# Altium footprint library CH32V103R核心板整体封装.PcbLib: 1 footprints
Each footprint in its own frame and in the unit in brackets; x right, y up, seen from the top. Pads: shape width x height; smd on the part's side, far side on the other; paste and mask are expansions set on the pad; w line width, h text height; cw(c..) or ccw(c..) is an arc to the next point about the centre after c.
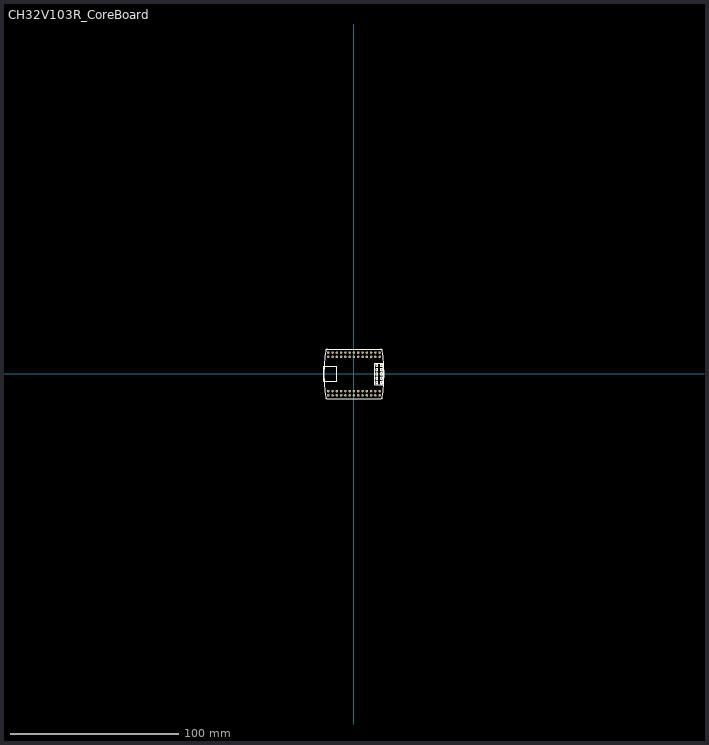
[diagram p0: the footprint, top view; thin cyan lines are the x and y axes]

## CH32V103R_CoreBoard [mm] "逐飞科技CH32V103R核心板"
pads (52):
  round 1.5 hole 0.9: 1(-15.24,-12.7) 2(-15.24,-10.16) 3(-12.7,-12.7) 4(-12.7,-10.16) 5(-10.16,-12.7) 6(-10.16,-10.16) 7(-7.62,-12.7) 8(-7.62,-10.16) 9(-5.08,-12.7) 10(-5.08,-10.16) 11(-2.54,-12.7) 12(-2.54,-10.16) 13(0,-12.7) 14(0,-10.16) 15(2.54,-12.7) 16(2.54,-10.16) 17(5.08,-12.7) 18(5.08,-10.16) 19(7.62,-12.7) 20(7.62,-10.16) 21(10.16,-12.7) 22(10.16,-10.16) 23(12.7,-12.7) 24(12.7,-10.16) 25(15.24,-12.7) 26(15.24,-10.16) 27(15.24,12.7) 28(15.24,10.16) 29(12.7,12.7) 30(12.7,10.16) 31(10.16,12.7) 32(10.16,10.16) 33(7.62,12.7) 34(7.62,10.16) 35(5.08,12.7) 36(5.08,10.16) 37(2.54,12.7) 38(2.54,10.16) 39(0,12.7) 40(0,10.16) 41(-2.54,12.7) 42(-2.54,10.16) 43(-5.08,12.7) 44(-5.08,10.16) 45(-7.62,12.7) 46(-7.62,10.16) 47(-10.16,12.7) 48(-10.16,10.16) 49(-12.7,12.7) 50(-12.7,10.16) 51(-15.24,12.7) 52(-15.24,10.16)
Top Overlay:
  circle w0.254: c16.129,2.54 r0.635
  circle w0.254: c16.129,0 r0.635
  circle w0.254: c16.129,-2.54 r0.635
  circle w0.254: c16.129,5.08 r0.635
  circle w0.254: c16.129,-5.08 r0.635
  circle w0.254: c13.589,2.54 r0.635
  circle w0.254: c13.589,-2.54 r0.635
  circle w0.254: c13.589,0 r0.635
  circle w0.254: c13.589,5.08 r0.635
  circle w0.254: c13.589,-5.08 r0.635
  lines w0.254: -17.78,-4.445 -17.78,4.445 -10.16,4.445 -10.16,-4.445 -17.78,-4.445 ; -16.852,-13.878 cw(c85.418,-0.025) -16.852,13.827 cw(c-15.748,13.532) -15.748,14.675 15.795,14.675 cw(c15.795,13.532) 16.899,13.827 cw(c-85.371,-0.025) 16.899,-13.878 cw(c15.795,-13.582) 15.795,-14.725 -15.748,-14.725 cw(c-15.748,-13.582) -16.852,-13.878 ; 12.319,-6.35 17.399,-6.35 17.399,6.35 12.319,6.35 12.319,-6.35